# Altium schematic symbol library JST_B3B-XH-A-3PIN.SchLib: 1 symbol
Pins are listed as number, name and electrical type; pins without a type are passive.

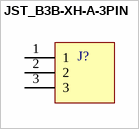
[diagram p0: symbol JST_B3B-XH-A-3PIN]

## JST_B3B-XH-A-3PIN
designator J?
pins: 1, 2, 3